# Altium footprint library Nucleo_FootPrint.PcbLib: 1 footprints
Each footprint in its own frame and in the unit in brackets; x right, y up, seen from the top. Pads: shape width x height; smd on the part's side, far side on the other; paste and mask are expansions set on the pad; w line width, h text height; cw(c..) or ccw(c..) is an arc to the next point about the centre after c.
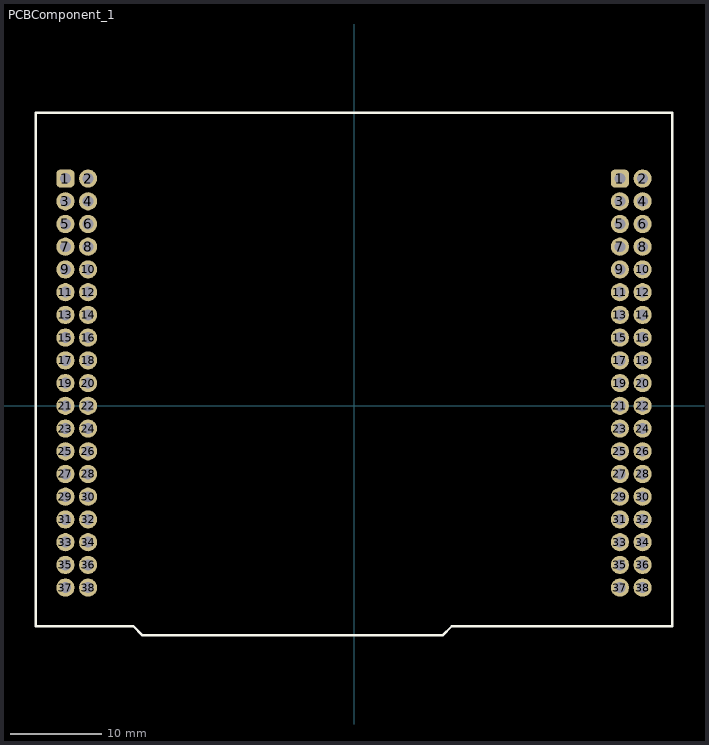
[diagram p0: the footprint, top view; thin cyan lines are the x and y axes]

## PCBComponent_1 [mm]
pads (76):
  rrect50% 2x2 hole 1.2: 1(-31.75,25) 1(29.25,25)
  round 2 hole 1.2: 2(-29.25,25) 2(31.75,25) 3(-31.75,22.5) 3(29.25,22.5) 4(-29.25,22.5) 4(31.75,22.5) 5(-31.75,20) 5(29.25,20) 6(-29.25,20) 6(31.75,20) 7(-31.75,17.5) 7(29.25,17.5) 8(-29.25,17.5) 8(31.75,17.5) 9(-31.75,15) 9(29.25,15) 10(-29.25,15) 10(31.75,15) 11(-31.75,12.5) 11(29.25,12.5) 12(-29.25,12.5) 12(31.75,12.5) 13(-31.75,10) 13(29.25,10) 14(-29.25,10) 14(31.75,10) 15(-31.75,7.5) 15(29.25,7.5) 16(-29.25,7.5) 16(31.75,7.5) 17(-31.75,5) 17(29.25,5) 18(-29.25,5) 18(31.75,5) 19(-31.75,2.5) 19(29.25,2.5) 20(-29.25,2.5) 20(31.75,2.5) 21(-31.75,0) 21(29.25,0) 22(-29.25,0) 22(31.75,0) 23(-31.75,-2.5) 23(29.25,-2.5) 24(-29.25,-2.5) 24(31.75,-2.5) 25(-31.75,-5) 25(29.25,-5) 26(-29.25,-5) 26(31.75,-5) 27(-31.75,-7.5) 27(29.25,-7.5) 28(-29.25,-7.5) 28(31.75,-7.5) 29(-31.75,-10) 29(29.25,-10) 30(-29.25,-10) 30(31.75,-10) 31(-31.75,-12.5) 31(29.25,-12.5) 32(-29.25,-12.5) 32(31.75,-12.5) 33(-31.75,-15) 33(29.25,-15) 34(-29.25,-15) 34(31.75,-15) 35(-31.75,-17.5) 35(29.25,-17.5) 36(-29.25,-17.5) 36(31.75,-17.5) 37(-31.75,-20) 37(29.25,-20) 38(-29.25,-20) 38(31.75,-20)
Top Overlay:
  lines w0.254: 9.75,-25.25 10.75,-24.25 24,-24.25 35,-24.25 35,-21.25 35,21.25 35,32.25 -35,32.25 -35,21.25 -35,-21.25 -35,-24.25 -24.25,-24.25 -23.25,-25.25 9.75,-25.25 ; 9.75,-25.25 9.75,-25.25